# Altium schematic symbol library Q_NPN_PNP.Schlib: 1 symbol
Pins are listed as number, name and electrical type; pins without a type are passive.

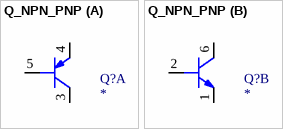
[diagram p0: symbol Q_NPN_PNP]

## Q_NPN_PNP
designator Q?
Transistor, NPN
part A pins: 3 PNP-COLLECTOR, 4 PNP-EMITTER, 5 PNP-BASE
part B pins: 1 NPN-EMITTER, 2 NPN-BASE, 6 NPN-COLLECTOR